# EAGLE library part LM35 (library Jameco)
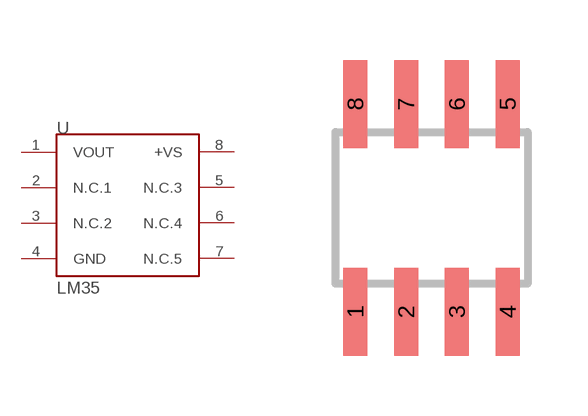
[diagram p0: symbol with the pads of LM35; footprint LM35]

Designator prefix -

## LM35  [LM35]
1  VOUT
2  N.C.1
3  N.C.2
4  GND
5  N.C.3
6  N.C.4
7  N.C.5
8  +VS

## Footprint LM35 (pad centres in mm)
smd 0.6 x 2.2: 1 -1.905,-2.6; 2 -0.635,-2.6; 3 0.635,-2.6; 4 1.905,-2.6; 5 1.905,2.6; 6 0.635,2.6; 7 -0.635,2.6; 8 -1.905,2.6